# EAGLE library part CON-24P (library Connectors)
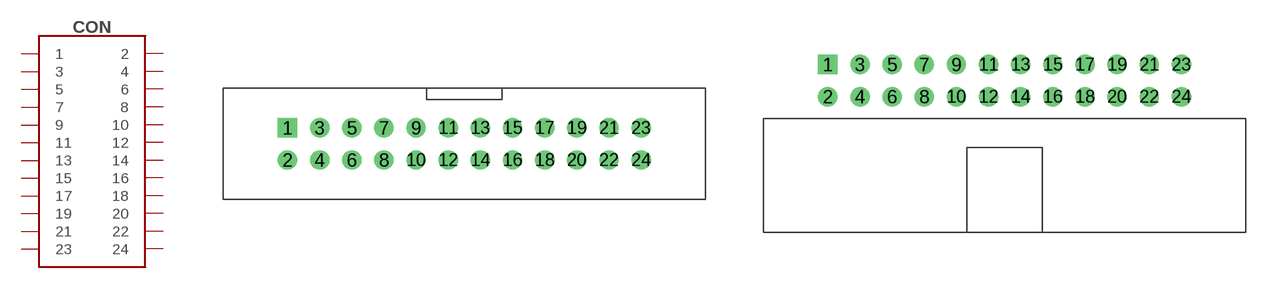
[diagram p21: symbol with the pads of DS1013-24S; footprints DS1013-24S, DS1013-24R]

Designator prefix CON

## CON-24P-IDC (MANF: Connfly electronic (Zhenqin); MANF#: DS1013-24S)  [DS1013-24S]
1  1
2  2
3  3
4  4
5  5
6  6
7  7
8  8
9  9
10  10
11  11
12  12
13  13
14  14
15  15
16  16
17  17
18  18
19  19
20  20
21  21
22  22
23  23
24  24

## CON-24P-IDC-R (MANF: Connfly electronic (Zhenqin); MANF#: DS1013-24R)  [DS1013-24R]
Pads as for DS1013-24S

## Footprint DS1013-24S (pad centres in mm)
Drawing <https://static.chipdip.ru/lib/463/DOC002463525.pdf>
drill 1.02 square: 1 -13.97,1.27
drill 1.02: 2 -13.97,-1.27; 3 -11.43,1.27; 4 -11.43,-1.27; 5 -8.89,1.27; 6 -8.89,-1.27; 7 -6.35,1.27; 8 -6.35,-1.27; 9 -3.81,1.27; 10 -3.81,-1.27; 11 -1.27,1.27; 12 -1.27,-1.27; 13 1.27,1.27; 14 1.27,-1.27; 15 3.81,1.27; 16 3.81,-1.27; 17 6.35,1.27; 18 6.35,-1.27; 19 8.89,1.27; 20 8.89,-1.27; 21 11.43,1.27; 22 11.43,-1.27; 23 13.97,1.27; 24 13.97,-1.27

## Footprint DS1013-24R (pad centres in mm)
Drawing <https://static.chipdip.ru/lib/463/DOC002463525.pdf>
drill 1.02 square: 1 -13.97,1.27
drill 1.02: 2 -13.97,-1.27; 3 -11.43,1.27; 4 -11.43,-1.27; 5 -8.89,1.27; 6 -8.89,-1.27; 7 -6.35,1.27; 8 -6.35,-1.27; 9 -3.81,1.27; 10 -3.81,-1.27; 11 -1.27,1.27; 12 -1.27,-1.27; 13 1.27,1.27; 14 1.27,-1.27; 15 3.81,1.27; 16 3.81,-1.27; 17 6.35,1.27; 18 6.35,-1.27; 19 8.89,1.27; 20 8.89,-1.27; 21 11.43,1.27; 22 11.43,-1.27; 23 13.97,1.27; 24 13.97,-1.27